# Altium footprint library MINI-STM32.PcbLib: 20 footprints (part 2 of 2)
Each footprint in its own frame and in the unit in brackets; x right, y up, seen from the top. Pads: shape width x height; smd on the part's side, far side on the other; paste and mask are expansions set on the pad; w line width, h text height; cw(c..) or ccw(c..) is an arc to the next point about the centre after c.
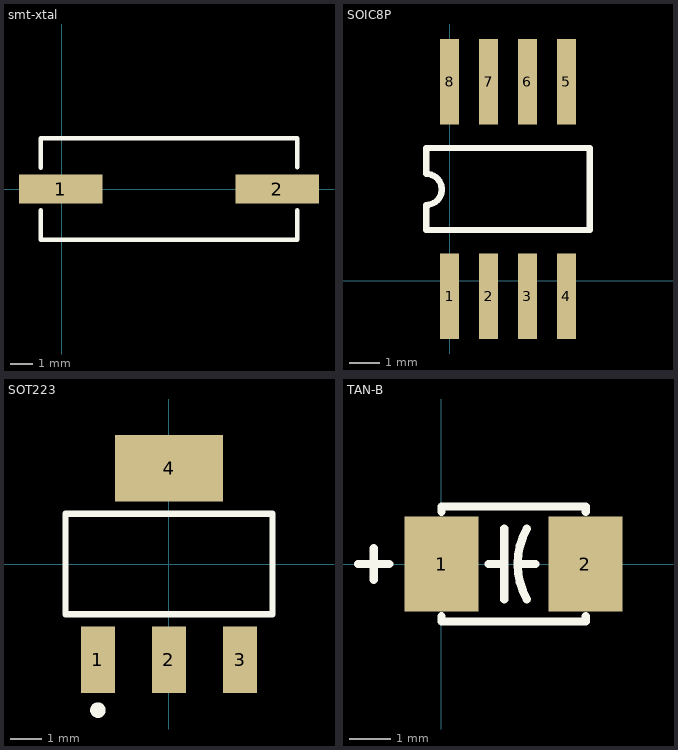
[diagram p1: the footprints below, top view; thin cyan lines are the x and y axes]

## smt-xtal [mil]
pads (2):
  rect 146x51 smd: 1(-2,0) 2(376,0)
Top Overlay:
  lines w8: -37,-37 -37,-89 411,-89 411,-37 ; -37,37 -37,89 411,89 411,38

## SOIC8P [mil]
height 220.47
pads (8):
  rect 24x110 smd: 1(0,-20) 2(50,-20) 3(100,-20) 4(150,-20) 5(150,255) 6(100,255) 7(50,255) 8(0,255)
Top Overlay:
  lines w8: -30,65 -30,97 ccw(c-30,117) -30,137 -30,170 180,170 180,65 -30,65

## SOT223 [mm] "SOT-223/SC-73; 4 Leads; Body 6.7 x 7.3 mm, inc. leads (LxW max)"
height 1.8
pads (4):
  rect 1.1x2.15 smd: 1(-2.3,-3.1) 2(0,-3.1) 3(2.3,-3.1)
  rect 3.5x2.15 smd: 4(0,3.1)
Top Overlay:
  circle w0.25: c-2.3,-4.725 r0.125
  lines w0.2: -3.35,-1.625 -3.35,1.625 3.35,1.625 3.35,-1.625 -3.35,-1.625

## TAN-B [mm]
height 0.55
pads (2):
  rect 1.8x2.3 smd: 1(0.01,0.007) 2(3.51,0.007)
Top Overlay:
  lines w0.203: -2.022,0.007 -1.26,0.007 ; -1.641,-0.374 -1.641,0.388 ; 0.01,-1.263 0.01,-1.393 3.51,-1.393 ; 0.01,1.277 0.01,1.407 3.51,1.407 ; 1.153,0.007 1.534,0.007 ; 1.534,-0.856 1.534,0.871 ; 1.915,0.007 2.296,0.007 ; 2.086,-0.847 cw(c3.566,0.007) 2.086,0.862 ; 3.515,-1.393 3.515,-1.263 ; 3.515,1.277 3.515,1.407